# Altium footprint library DPAK.PcbLib: 1 footprints
Each footprint in its own frame and in the unit in brackets; x right, y up, seen from the top. Pads: shape width x height; smd on the part's side, far side on the other; paste and mask are expansions set on the pad; w line width, h text height; cw(c..) or ccw(c..) is an arc to the next point about the centre after c.
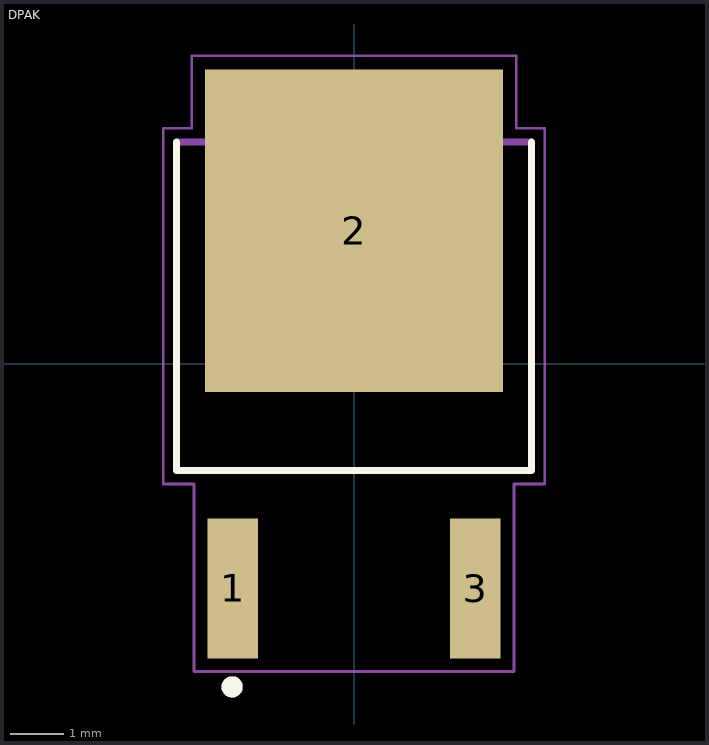
[diagram p0: the footprint, top view; thin cyan lines are the x and y axes]

## DPAK [mm]
pads (3):
  rect 0.95x2.64 smd: 1(-2.286,-4.24) 3(2.286,-4.24)
  rect 5.63x6.09 smd: 2(0,2.51)
Top Overlay:
  circle w0.2: c-2.3,-6.1 r0.1
  lines w0.127: -3.35,4.185 -3.35,-2.015 3.35,-2.015 3.35,4.185
Bottom Overlay:
  lines w0.127: 3.35,-2.015 3.35,4.185
Top Paste:
  region: 1.225,3.24 2.535,3.24 2.535,1.78 1.225,1.78
  region: 1.225,5.27 2.535,5.27 2.535,3.81 1.225,3.81
  region: 1.225,1.21 2.535,1.21 2.535,-0.25 1.225,-0.25
  region: -2.535,1.21 -1.225,1.21 -1.225,-0.25 -2.535,-0.25
  region: -2.535,3.24 -1.225,3.24 -1.225,1.78 -2.535,1.78
  region: -2.535,5.27 -1.225,5.27 -1.225,3.81 -2.535,3.81
  region: -0.655,1.21 0.655,1.21 0.655,-0.25 -0.655,-0.25
  region: -0.655,5.27 0.655,5.27 0.655,3.81 -0.655,3.81
  region: -0.655,3.24 0.655,3.24 0.655,1.78 -0.655,1.78
Mechanical 4:
  circle w0.2: c-2.3,-6.1 r0.1
  circle w0.2: c-2.3,-6.1 r0.1
  lines w0.127: -3.35,-2.015 -3.35,4.185 ; -3.35,-2.015 3.35,-2.015 ; -3.35,-2.015 -3.35,4.185 ; -3.35,-2.015 3.35,-2.015 ; -3.35,4.185 3.35,4.185 ; -3.35,4.185 3.35,4.185 ; 3.35,-2.015 3.35,4.185 ; 3.35,-2.015 3.35,4.185
Mechanical 15:
  lines w0.05: -3.6,-2.27 -3.02,-2.27 -3.02,-5.81 3.02,-5.81 3.02,-2.27 3.6,-2.27 3.6,4.44 3.065,4.44 3.065,5.81 -3.065,5.81 -3.065,4.44 -3.6,4.44 -3.6,-2.27